# Altium schematic symbol library MT25QU256ABA1EW9-0SIT.SchLib: 2 symbols
Pins are listed as number, name and electrical type; pins without a type are passive.

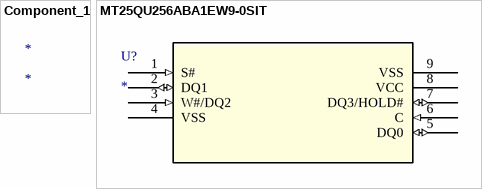
[diagram p0: symbols Component_1 to MT25QU256ABA1EW9-0SIT]

## Component_1
designator *

## MT25QU256ABA1EW9-0SIT
designator U?
No Description Available; Mfr_Name: Micron; RefDes: RefDes; Type: Type
footprint W-PDFN-8MLP8_8X6_MRN
pins: 1 S# (in), 2 DQ1 (io), 3 W#/DQ2 (in), 4 VSS (power), 5 DQ0 (io), 6 C (in), 7 DQ3/HOLD# (io), 8 VCC (power), 9 VSS (power)